# EAGLE library part EM11B_SW (library rotary-encoder)
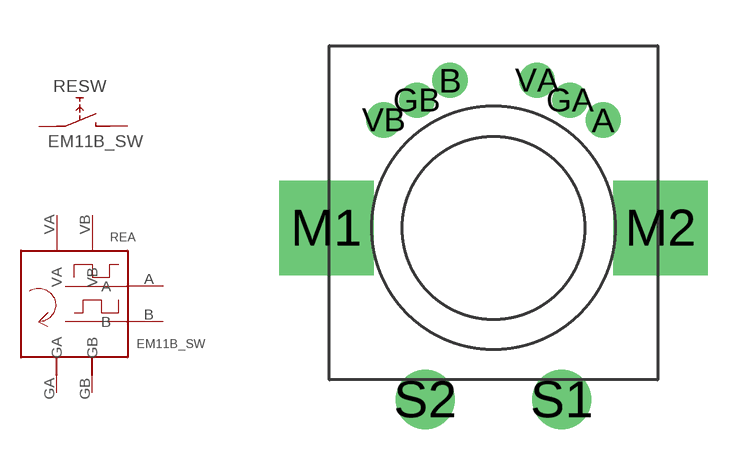
[diagram p2: symbol with the pads of EM11; footprint EM11]

Designator prefix RE; gates A=EM11B SW=SW

## EM11B_SW  [EM11]
A  A:A
B  A:B
GA  A:GA  sup
GB  A:GB  sup
S1  SW:D  pas
S2  SW:E  pas
VA  A:VA  sup
VB  A:VB  sup

## Footprint EM11 (pad centres in mm)
drill 0.65 round: A 3.608,3.55; B -1.43,4.856; GA 2.52,4.2; GB -2.52,4.2; VA 1.43,4.856; VB -3.608,3.55
drill 2.1 square: M1 -5.5,0; M2 5.5,0
drill 1.3 round: S1 2.25,-5.65; S2 -2.25,-5.65